# Altium footprint library pin_headers.PcbLib: 15 footprints
Each footprint in its own frame and in the unit in brackets; x right, y up, seen from the top. Pads: shape width x height; smd on the part's side, far side on the other; paste and mask are expansions set on the pad; w line width, h text height; cw(c..) or ccw(c..) is an arc to the next point about the centre after c.
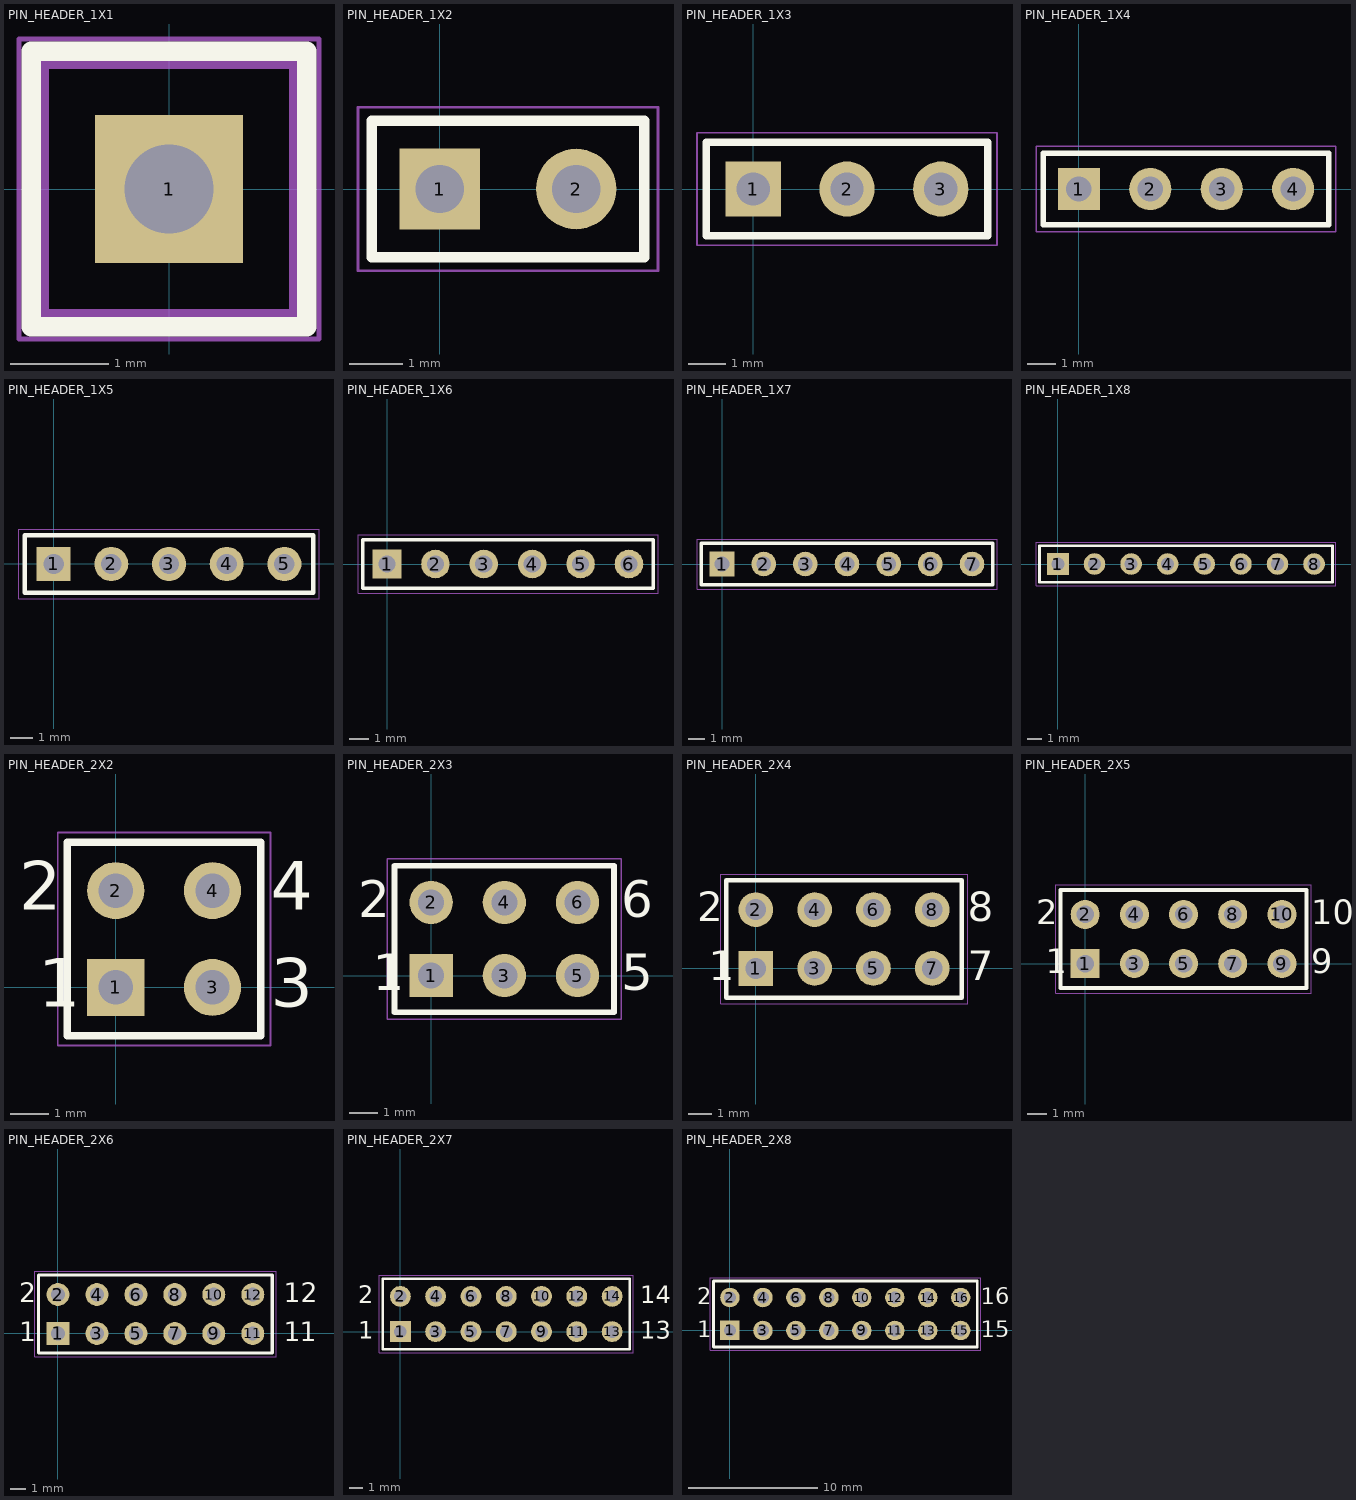
[diagram p0: the footprints below, top view; thin cyan lines are the x and y axes]

## PIN_HEADER_1X1 [mm] "pin header, 1-pin"
height 10
pads (1):
  rect 1.5x1.5 hole 0.9: 1(0,0)
Top Overlay:
  lines w0.2: -1.4,-1.4 1.4,-1.4 1.4,1.4 -1.4,1.4 -1.4,-1.4
Top Assembly:
  lines w0.1: -1.27,-1.27 -1.27,1.27 1.27,1.27 1.27,-1.27 -1.27,-1.27
Bottom Assembly:
  lines w0.1: -1.27,-1.27 -1.27,1.27 1.27,1.27 1.27,-1.27 -1.27,-1.27
Top Courtyard:
  lines w0.05: -1.524,-1.524 -1.524,1.524 1.524,1.524 1.524,-1.524 -1.524,-1.524
Bottom Courtyard:
  lines w0.05: -1.524,-1.524 1.524,-1.524 1.524,1.524 -1.524,1.524 -1.524,-1.524
3D body "User Library-Header_Male_1Pin.STEP": height 8.54, standoff -3, extent -1.27,-1.245 1.27,1.245

## PIN_HEADER_1X2 [mm] "pin header, 2-pin"
height 10
pads (2):
  rect 1.5x1.5 hole 0.9: 1(0,0)
  round 1.5 hole 0.9: 2(2.54,0)
Top Overlay:
  lines w0.2: -1.27,-1.27 3.81,-1.27 3.81,1.27 -1.27,1.27 -1.27,-1.27
Top Assembly:
  lines w0.1: -1.27,-1.27 1.27,-1.27 3.81,-1.27 3.81,1.27 1.27,1.27 -1.27,1.27 -1.27,-1.27
Bottom Assembly:
  lines w0.1: -1.27,-1.27 1.27,-1.27 3.81,-1.27 3.81,1.27 1.27,1.27 -1.27,1.27 -1.27,-1.27
Top Courtyard:
  lines w0.05: 1.016,-1.524 4.064,-1.524 4.064,1.524 1.016,1.524 ; 1.524,-1.524 -1.524,-1.524 -1.524,1.524 1.524,1.524
Bottom Courtyard:
  lines w0.05: 1.016,-1.524 4.064,-1.524 4.064,1.524 1.016,1.524 ; 1.524,-1.524 -1.524,-1.524 -1.524,1.524 1.524,1.524
3D body "User Library-Header_Male_1Pin.STEP": height 8.54, standoff -3, extent 1.27,-1.245 3.81,1.245
3D body "User Library-Header_Male_1Pin.STEP": height 8.54, standoff -3, extent -1.27,-1.245 1.27,1.245

## PIN_HEADER_1X3 [mm] "pin header, 3-pin"
height 10
pads (3):
  rect 1.5x1.5 hole 0.9: 1(0,0)
  round 1.5 hole 0.9: 2(2.54,0) 3(5.08,0)
Top Overlay:
  lines w0.2: -1.27,-1.27 6.35,-1.27 6.35,1.27 -1.27,1.27 -1.27,-1.27
Top Assembly:
  lines w0.1: -1.27,-1.27 1.27,-1.27 3.81,-1.27 6.35,-1.27 6.35,1.27 3.81,1.27 1.27,1.27 -1.27,1.27 -1.27,-1.27
Bottom Assembly:
  lines w0.1: -1.27,-1.27 1.27,-1.27 3.81,-1.27 6.35,-1.27 6.35,1.27 3.81,1.27 1.27,1.27 -1.27,1.27 -1.27,-1.27
Top Courtyard:
  lines w0.05: 1.016,-1.524 4.064,-1.524 ; 1.016,1.524 4.064,1.524 ; 1.524,-1.524 -1.524,-1.524 -1.524,1.524 1.524,1.524 ; 3.556,-1.524 6.604,-1.524 6.604,1.524 3.556,1.524
Bottom Courtyard:
  lines w0.05: 1.016,-1.524 4.064,-1.524 ; 1.016,1.524 4.064,1.524 ; 1.524,-1.524 -1.524,-1.524 -1.524,1.524 1.524,1.524 ; 3.556,-1.524 6.604,-1.524 6.604,1.524 3.556,1.524
3D body "User Library-Header_Male_1Pin.STEP": height 8.54, standoff -3, extent 3.81,-1.245 6.35,1.245
3D body "User Library-Header_Male_1Pin.STEP": height 8.54, standoff -3, extent 1.27,-1.245 3.81,1.245
3D body "User Library-Header_Male_1Pin.STEP": height 8.54, standoff -3, extent -1.27,-1.245 1.27,1.245

## PIN_HEADER_1X4 [mm] "pin header, 4-pin"
height 10
pads (4):
  rect 1.5x1.5 hole 0.9: 1(0,0)
  round 1.5 hole 0.9: 2(2.54,0) 3(5.08,0) 4(7.62,0)
Top Overlay:
  lines w0.2: -1.27,-1.27 8.89,-1.27 8.89,1.27 -1.27,1.27 -1.27,-1.27
Top Assembly:
  lines w0.1: -1.27,-1.27 1.27,-1.27 3.81,-1.27 6.35,-1.27 8.89,-1.27 8.89,1.27 6.35,1.27 3.81,1.27 1.27,1.27 -1.27,1.27 -1.27,-1.27
Bottom Assembly:
  lines w0.1: -1.27,-1.27 1.27,-1.27 3.81,-1.27 6.35,-1.27 8.89,-1.27 8.89,1.27 6.35,1.27 3.81,1.27 1.27,1.27 -1.27,1.27 -1.27,-1.27
Top Courtyard:
  lines w0.05: 1.016,-1.524 4.064,-1.524 ; 1.016,1.524 4.064,1.524 ; 1.524,-1.524 -1.524,-1.524 -1.524,1.524 1.524,1.524 ; 3.556,-1.524 6.604,-1.524 ; 3.556,1.524 6.604,1.524 ; 6.096,-1.524 9.144,-1.524 9.144,1.524 6.096,1.524
Bottom Courtyard:
  lines w0.05: 1.016,-1.524 4.064,-1.524 ; 1.016,1.524 4.064,1.524 ; 1.524,-1.524 -1.524,-1.524 -1.524,1.524 1.524,1.524 ; 3.556,-1.524 6.604,-1.524 ; 3.556,1.524 6.604,1.524 ; 6.096,-1.524 9.144,-1.524 9.144,1.524 6.096,1.524
3D body "User Library-Header_Male_1Pin.STEP": height 8.54, standoff -3, extent -1.27,-1.245 1.27,1.245
3D body "User Library-Header_Male_1Pin.STEP": height 8.54, standoff -3, extent 1.27,-1.245 3.81,1.245
3D body "User Library-Header_Male_1Pin.STEP": height 8.54, standoff -3, extent 3.81,-1.245 6.35,1.245
3D body "User Library-Header_Male_1Pin.STEP": height 8.54, standoff -3, extent 6.35,-1.245 8.89,1.245

## PIN_HEADER_1X5 [mm] "pin header, 5-pin"
height 10
pads (5):
  rect 1.5x1.5 hole 0.9: 1(0,0)
  round 1.5 hole 0.9: 2(2.54,0) 3(5.08,0) 4(7.62,0) 5(10.16,0)
Top Overlay:
  lines w0.2: -1.27,-1.27 11.43,-1.27 11.43,1.27 -1.27,1.27 -1.27,-1.27
Top Assembly:
  lines w0.1: -1.27,-1.27 1.27,-1.27 3.81,-1.27 6.35,-1.27 8.89,-1.27 11.43,-1.27 11.43,1.27 8.89,1.27 6.35,1.27 3.81,1.27 1.27,1.27 -1.27,1.27 -1.27,-1.27
Bottom Assembly:
  lines w0.1: -1.27,-1.27 1.27,-1.27 3.81,-1.27 6.35,-1.27 8.89,-1.27 11.43,-1.27 11.43,1.27 8.89,1.27 6.35,1.27 3.81,1.27 1.27,1.27 -1.27,1.27 -1.27,-1.27
Top Courtyard:
  lines w0.05: 1.016,-1.524 4.064,-1.524 ; 1.016,1.524 4.064,1.524 ; 1.524,-1.524 -1.524,-1.524 -1.524,1.524 1.524,1.524 ; 3.556,-1.524 6.604,-1.524 ; 3.556,1.524 6.604,1.524 ; 6.096,-1.524 9.144,-1.524 ; 6.096,1.524 9.144,1.524 ; 8.636,-1.524 11.684,-1.524 11.684,1.524 8.636,1.524
Bottom Courtyard:
  lines w0.05: 1.016,-1.524 4.064,-1.524 ; 1.016,1.524 4.064,1.524 ; 1.524,-1.524 -1.524,-1.524 -1.524,1.524 1.524,1.524 ; 3.556,-1.524 6.604,-1.524 ; 3.556,1.524 6.604,1.524 ; 6.096,-1.524 9.144,-1.524 ; 6.096,1.524 9.144,1.524 ; 8.636,-1.524 11.684,-1.524 11.684,1.524 8.636,1.524
3D body "User Library-Header_Male_1Pin.STEP": height 8.54, standoff -3, extent 8.89,-1.245 11.43,1.245
3D body "User Library-Header_Male_1Pin.STEP": height 8.54, standoff -3, extent 6.35,-1.245 8.89,1.245
3D body "User Library-Header_Male_1Pin.STEP": height 8.54, standoff -3, extent 3.81,-1.245 6.35,1.245
3D body "User Library-Header_Male_1Pin.STEP": height 8.54, standoff -3, extent 1.27,-1.245 3.81,1.245
3D body "User Library-Header_Male_1Pin.STEP": height 8.54, standoff -3, extent -1.27,-1.245 1.27,1.245

## PIN_HEADER_1X6 [mm] "pin header, 6-pin"
height 10
pads (6):
  rect 1.5x1.5 hole 0.9: 1(0,0)
  round 1.5 hole 0.9: 2(2.54,0) 3(5.08,0) 4(7.62,0) 5(10.16,0) 6(12.7,0)
Top Overlay:
  lines w0.2: -1.27,-1.27 -1.27,1.27 13.97,1.27 13.97,-1.27 -1.27,-1.27
Top Assembly:
  lines w0.1: -1.27,-1.27 -1.27,1.27 1.27,1.27 3.81,1.27 6.35,1.27 8.89,1.27 11.43,1.27 13.97,1.27 13.97,-1.27 11.43,-1.27 8.89,-1.27 6.35,-1.27 3.81,-1.27 1.27,-1.27 -1.27,-1.27
Bottom Assembly:
  lines w0.1: -1.27,-1.27 -1.27,1.27 1.27,1.27 3.81,1.27 6.35,1.27 8.89,1.27 11.43,1.27 13.97,1.27 13.97,-1.27 11.43,-1.27 8.89,-1.27 6.35,-1.27 3.81,-1.27 1.27,-1.27 -1.27,-1.27
Top Courtyard:
  lines w0.05: 1.016,-1.524 4.064,-1.524 ; 1.016,1.524 4.064,1.524 ; 1.524,-1.524 -1.524,-1.524 -1.524,1.524 1.524,1.524 ; 3.556,-1.524 6.604,-1.524 ; 3.556,1.524 6.604,1.524 ; 6.096,-1.524 9.144,-1.524 ; 6.096,1.524 9.144,1.524 ; 8.636,-1.524 11.684,-1.524 ; 8.636,1.524 11.684,1.524 ; 11.176,-1.524 14.224,-1.524 14.224,1.524 11.176,1.524
Bottom Courtyard:
  lines w0.05: 1.016,-1.524 4.064,-1.524 ; 1.016,1.524 4.064,1.524 ; 1.524,-1.524 -1.524,-1.524 -1.524,1.524 1.524,1.524 ; 3.556,-1.524 6.604,-1.524 ; 3.556,1.524 6.604,1.524 ; 6.096,-1.524 9.144,-1.524 ; 6.096,1.524 9.144,1.524 ; 8.636,-1.524 11.684,-1.524 ; 8.636,1.524 11.684,1.524 ; 11.176,-1.524 14.224,-1.524 14.224,1.524 11.176,1.524
3D body "User Library-Header_Male_1Pin.STEP": height 8.54, standoff -3, extent 11.43,-1.245 13.97,1.245
3D body "User Library-Header_Male_1Pin.STEP": height 8.54, standoff -3, extent 8.89,-1.245 11.43,1.245
3D body "User Library-Header_Male_1Pin.STEP": height 8.54, standoff -3, extent 6.35,-1.245 8.89,1.245
3D body "User Library-Header_Male_1Pin.STEP": height 8.54, standoff -3, extent 3.81,-1.245 6.35,1.245
3D body "User Library-Header_Male_1Pin.STEP": height 8.54, standoff -3, extent 1.27,-1.245 3.81,1.245
3D body "User Library-Header_Male_1Pin.STEP": height 8.54, standoff -3, extent -1.27,-1.245 1.27,1.245

## PIN_HEADER_1X7 [mm] "pin header, 7-pin"
height 10
pads (7):
  rect 1.5x1.5 hole 0.9: 1(0,0)
  round 1.5 hole 0.9: 2(2.54,0) 3(5.08,0) 4(7.62,0) 5(10.16,0) 6(12.7,0) 7(15.24,0)
Top Overlay:
  lines w0.2: -1.27,-1.27 16.51,-1.27 16.51,1.27 -1.27,1.27 -1.27,-1.27
Top Assembly:
  lines w0.1: -1.27,-1.27 1.27,-1.27 3.81,-1.27 6.35,-1.27 8.89,-1.27 11.43,-1.27 13.97,-1.27 16.51,-1.27 16.51,1.27 13.97,1.27 11.43,1.27 8.89,1.27 6.35,1.27 3.81,1.27 1.27,1.27 -1.27,1.27 -1.27,-1.27
Bottom Assembly:
  lines w0.1: -1.27,-1.27 1.27,-1.27 3.81,-1.27 6.35,-1.27 8.89,-1.27 11.43,-1.27 13.97,-1.27 16.51,-1.27 16.51,1.27 13.97,1.27 11.43,1.27 8.89,1.27 6.35,1.27 3.81,1.27 1.27,1.27 -1.27,1.27 -1.27,-1.27
Top Courtyard:
  lines w0.05: 1.016,-1.524 4.064,-1.524 ; 1.016,1.524 4.064,1.524 ; 1.524,-1.524 -1.524,-1.524 -1.524,1.524 1.524,1.524 ; 3.556,-1.524 6.604,-1.524 ; 3.556,1.524 6.604,1.524 ; 6.096,-1.524 9.144,-1.524 ; 6.096,1.524 9.144,1.524 ; 8.636,-1.524 11.684,-1.524 ; 8.636,1.524 11.684,1.524 ; 11.176,-1.524 14.224,-1.524 ; 11.176,1.524 14.224,1.524 ; 13.716,-1.524 16.764,-1.524 16.764,1.524 13.716,1.524
Bottom Courtyard:
  lines w0.05: 1.016,-1.524 4.064,-1.524 ; 1.016,1.524 4.064,1.524 ; 1.524,-1.524 -1.524,-1.524 -1.524,1.524 1.524,1.524 ; 3.556,-1.524 6.604,-1.524 ; 3.556,1.524 6.604,1.524 ; 6.096,-1.524 9.144,-1.524 ; 6.096,1.524 9.144,1.524 ; 8.636,-1.524 11.684,-1.524 ; 8.636,1.524 11.684,1.524 ; 11.176,-1.524 14.224,-1.524 ; 11.176,1.524 14.224,1.524 ; 13.716,-1.524 16.764,-1.524 16.764,1.524 13.716,1.524
3D body "User Library-Header_Male_1Pin.STEP": height 8.54, standoff -3, extent 13.97,-1.245 16.51,1.245
3D body "User Library-Header_Male_1Pin.STEP": height 8.54, standoff -3, extent 11.43,-1.245 13.97,1.245
3D body "User Library-Header_Male_1Pin.STEP": height 8.54, standoff -3, extent 8.89,-1.245 11.43,1.245
3D body "User Library-Header_Male_1Pin.STEP": height 8.54, standoff -3, extent 6.35,-1.245 8.89,1.245
3D body "User Library-Header_Male_1Pin.STEP": height 8.54, standoff -3, extent 3.81,-1.245 6.35,1.245
3D body "User Library-Header_Male_1Pin.STEP": height 8.54, standoff -3, extent 1.27,-1.245 3.81,1.245
3D body "User Library-Header_Male_1Pin.STEP": height 8.54, standoff -3, extent -1.27,-1.245 1.27,1.245

## PIN_HEADER_1X8 [mm] "pin header, 8-pin"
height 10
pads (8):
  rect 1.5x1.5 hole 0.9: 1(0,0)
  round 1.5 hole 0.9: 2(2.54,0) 3(5.08,0) 4(7.62,0) 5(10.16,0) 6(12.7,0) 7(15.24,0) 8(17.78,0)
Top Overlay:
  lines w0.2: -1.27,-1.27 19.05,-1.27 19.05,1.27 -1.27,1.27 -1.27,-1.27
Top Assembly:
  lines w0.1: -1.27,-1.27 1.27,-1.27 3.81,-1.27 6.35,-1.27 8.89,-1.27 11.43,-1.27 13.97,-1.27 16.51,-1.27 19.05,-1.27 19.05,1.27 16.51,1.27 13.97,1.27 11.43,1.27 8.89,1.27 6.35,1.27 3.81,1.27 1.27,1.27 -1.27,1.27 -1.27,-1.27
Bottom Assembly:
  lines w0.1: -1.27,-1.27 1.27,-1.27 3.81,-1.27 6.35,-1.27 8.89,-1.27 11.43,-1.27 13.97,-1.27 16.51,-1.27 19.05,-1.27 19.05,1.27 16.51,1.27 13.97,1.27 11.43,1.27 8.89,1.27 6.35,1.27 3.81,1.27 1.27,1.27 -1.27,1.27 -1.27,-1.27
Top Courtyard:
  lines w0.05: 1.016,-1.524 4.064,-1.524 ; 1.016,1.524 4.064,1.524 ; 1.524,-1.524 -1.524,-1.524 -1.524,1.524 1.524,1.524 ; 3.556,-1.524 6.604,-1.524 ; 3.556,1.524 6.604,1.524 ; 6.096,-1.524 9.144,-1.524 ; 6.096,1.524 9.144,1.524 ; 8.636,-1.524 11.684,-1.524 ; 8.636,1.524 11.684,1.524 ; 11.176,-1.524 14.224,-1.524 ; 11.176,1.524 14.224,1.524 ; 13.716,-1.524 16.764,-1.524 ; 13.716,1.524 16.764,1.524 ; 16.256,-1.524 19.304,-1.524 19.304,1.524 16.256,1.524
Bottom Courtyard:
  lines w0.05: 1.016,-1.524 4.064,-1.524 ; 1.016,1.524 4.064,1.524 ; 1.524,-1.524 -1.524,-1.524 -1.524,1.524 1.524,1.524 ; 3.556,-1.524 6.604,-1.524 ; 3.556,1.524 6.604,1.524 ; 6.096,-1.524 9.144,-1.524 ; 6.096,1.524 9.144,1.524 ; 8.636,-1.524 11.684,-1.524 ; 8.636,1.524 11.684,1.524 ; 11.176,-1.524 14.224,-1.524 ; 11.176,1.524 14.224,1.524 ; 13.716,-1.524 16.764,-1.524 ; 13.716,1.524 16.764,1.524 ; 16.256,-1.524 19.304,-1.524 19.304,1.524 16.256,1.524
3D body "User Library-Header_Male_1Pin.STEP": height 8.54, standoff -3, extent -1.27,-1.245 1.27,1.245
3D body "User Library-Header_Male_1Pin.STEP": height 8.54, standoff -3, extent 1.27,-1.245 3.81,1.245
3D body "User Library-Header_Male_1Pin.STEP": height 8.54, standoff -3, extent 3.81,-1.245 6.35,1.245
3D body "User Library-Header_Male_1Pin.STEP": height 8.54, standoff -3, extent 6.35,-1.245 8.89,1.245
3D body "User Library-Header_Male_1Pin.STEP": height 8.54, standoff -3, extent 8.89,-1.245 11.43,1.245
3D body "User Library-Header_Male_1Pin.STEP": height 8.54, standoff -3, extent 11.43,-1.245 13.97,1.245
3D body "User Library-Header_Male_1Pin.STEP": height 8.54, standoff -3, extent 13.97,-1.245 16.51,1.245
3D body "User Library-Header_Male_1Pin.STEP": height 8.54, standoff -3, extent 16.51,-1.245 19.05,1.245

## PIN_HEADER_2X2 [mm] "pin header, 2-pin, dual row"
height 10
pads (4):
  rect 1.5x1.5 hole 0.9: 1(0,0)
  round 1.5 hole 0.9: 2(0,2.54) 3(2.54,0) 4(2.54,2.54)
Top Overlay:
  lines w0.2: -1.27,-1.27 -1.27,3.81 3.81,3.81 3.81,-1.27 -1.27,-1.27
  text "1" at -2.032,-0.508 h1.27
  text "2" at -2.54,2.032 h1.27
  text "4" at 4.064,2.032 h1.27
  text "3" at 4.064,-0.508 h1.27
Top Assembly:
  lines w0.1: -1.27,-1.27 -1.27,1.27 -1.27,3.81 1.27,3.81 3.81,3.81 3.81,1.27 3.81,-1.27 1.27,-1.27 -1.27,-1.27
Bottom Assembly:
  lines w0.1: -1.27,-1.27 -1.27,1.27 -1.27,3.81 1.27,3.81 3.81,3.81 3.81,1.27 3.81,-1.27 1.27,-1.27 -1.27,-1.27
Top Courtyard:
  lines w0.05: -1.524,1.016 -1.524,4.064 1.524,4.064 ; -1.524,1.524 -1.524,-1.524 1.524,-1.524 ; 1.016,-1.524 4.064,-1.524 4.064,1.524 ; 1.016,4.064 4.064,4.064 4.064,1.016
Bottom Courtyard:
  lines w0.05: -1.524,1.016 -1.524,4.064 1.524,4.064 ; -1.524,1.524 -1.524,-1.524 1.524,-1.524 ; 1.016,-1.524 4.064,-1.524 4.064,1.524 ; 1.016,4.064 4.064,4.064 4.064,1.016
3D body "User Library-Header_Male_1Pin.STEP": height 8.54, standoff -3, extent -1.27,1.295 1.27,3.785
3D body "User Library-Header_Male_1Pin.STEP": height 8.54, standoff -3, extent 1.27,1.295 3.81,3.785
3D body "User Library-Header_Male_1Pin.STEP": height 8.54, standoff -3, extent 1.27,-1.245 3.81,1.245
3D body "User Library-Header_Male_1Pin.STEP": height 8.54, standoff -3, extent -1.27,-1.245 1.27,1.245

## PIN_HEADER_2X3 [mm] "pin header, 3-pin, dual row"
height 10
pads (6):
  rect 1.5x1.5 hole 0.9: 1(0,0)
  round 1.5 hole 0.9: 2(0,2.54) 3(2.54,0) 4(2.54,2.54) 5(5.08,0) 6(5.08,2.54)
Top Overlay:
  lines w0.2: 1.482,-1.27 6.35,-1.27 ; 6.35,-1.27 -1.27,-1.27 -1.27,3.81 6.35,3.81 6.35,-1.27
  text "1" at -2.032,-0.508 h1.27
  text "2" at -2.54,2.032 h1.27
  text "5" at 6.604,-0.508 h1.27
  text "6" at 6.604,2.032 h1.27
Top Assembly:
  lines w0.1: -1.27,-1.27 1.27,-1.27 3.81,-1.27 6.35,-1.27 6.35,1.27 6.35,3.81 3.81,3.81 1.27,3.81 -1.27,3.81 -1.27,1.27 -1.27,-1.27
Bottom Assembly:
  lines w0.1: -1.27,-1.27 1.27,-1.27 3.81,-1.27 6.35,-1.27 6.35,1.27 6.35,3.81 3.81,3.81 1.27,3.81 -1.27,3.81 -1.27,1.27 -1.27,-1.27
Top Courtyard:
  lines w0.05: -1.524,1.016 -1.524,4.064 1.524,4.064 ; -1.524,1.524 -1.524,-1.524 1.524,-1.524 ; 1.016,-1.524 4.064,-1.524 ; 1.016,4.064 4.064,4.064 ; 3.556,-1.524 6.604,-1.524 6.604,1.524 ; 3.556,4.064 6.604,4.064 6.604,1.016
Bottom Courtyard:
  lines w0.05: -1.524,1.016 -1.524,4.064 1.524,4.064 ; -1.524,1.524 -1.524,-1.524 1.524,-1.524 ; 1.016,-1.524 4.064,-1.524 ; 1.016,4.064 4.064,4.064 ; 3.556,-1.524 6.604,-1.524 6.604,1.524 ; 3.556,4.064 6.604,4.064 6.604,1.016
3D body "User Library-Header_Male_1Pin.STEP": height 8.54, standoff -3, extent -1.27,1.295 1.27,3.785
3D body "User Library-Header_Male_1Pin.STEP": height 8.54, standoff -3, extent 1.27,1.295 3.81,3.785
3D body "User Library-Header_Male_1Pin.STEP": height 8.54, standoff -3, extent 3.81,1.295 6.35,3.785
3D body "User Library-Header_Male_1Pin.STEP": height 8.54, standoff -3, extent 3.81,-1.245 6.35,1.245
3D body "User Library-Header_Male_1Pin.STEP": height 8.54, standoff -3, extent 1.27,-1.245 3.81,1.245
3D body "User Library-Header_Male_1Pin.STEP": height 8.54, standoff -3, extent -1.27,-1.245 1.27,1.245

## PIN_HEADER_2X4 [mm] "pin header, 4-pin, dual row"
height 10
pads (8):
  rect 1.5x1.5 hole 0.9: 1(0,0)
  round 1.5 hole 0.9: 2(0,2.54) 3(2.54,0) 4(2.54,2.54) 5(5.08,0) 6(5.08,2.54) 7(7.62,0) 8(7.62,2.54)
Top Overlay:
  lines w0.2: -1.27,-1.27 8.89,-1.27 8.89,3.81 -1.27,3.81 -1.27,-1.27
  text "2" at -2.54,2.032 h1.27
  text "1" at -2.032,-0.508 h1.27
  text "7" at 9.144,-0.508 h1.27
  text "8" at 9.144,2.032 h1.27
Top Assembly:
  lines w0.1: -1.27,-1.27 1.27,-1.27 3.81,-1.27 6.35,-1.27 8.89,-1.27 8.89,1.27 8.89,3.81 6.35,3.81 3.81,3.81 1.27,3.81 -1.27,3.81 -1.27,1.27 -1.27,-1.27
Bottom Assembly:
  lines w0.1: -1.27,-1.27 1.27,-1.27 3.81,-1.27 6.35,-1.27 8.89,-1.27 8.89,1.27 8.89,3.81 6.35,3.81 3.81,3.81 1.27,3.81 -1.27,3.81 -1.27,1.27 -1.27,-1.27
Top Courtyard:
  lines w0.05: -1.524,1.016 -1.524,4.064 1.524,4.064 ; -1.524,1.524 -1.524,-1.524 1.524,-1.524 ; 1.016,-1.524 4.064,-1.524 ; 1.016,4.064 4.064,4.064 ; 3.556,-1.524 6.604,-1.524 ; 3.556,4.064 6.604,4.064 ; 6.096,-1.524 9.144,-1.524 9.144,1.524 ; 6.096,4.064 9.144,4.064 9.144,1.016
Bottom Courtyard:
  lines w0.05: -1.524,1.016 -1.524,4.064 1.524,4.064 ; -1.524,1.524 -1.524,-1.524 1.524,-1.524 ; 1.016,-1.524 4.064,-1.524 ; 1.016,4.064 4.064,4.064 ; 3.556,-1.524 6.604,-1.524 ; 3.556,4.064 6.604,4.064 ; 6.096,-1.524 9.144,-1.524 9.144,1.524 ; 6.096,4.064 9.144,4.064 9.144,1.016
3D body "User Library-Header_Male_1Pin.STEP": height 8.54, standoff -3, extent -1.27,-1.245 1.27,1.245
3D body "User Library-Header_Male_1Pin.STEP": height 8.54, standoff -3, extent 1.27,-1.245 3.81,1.245
3D body "User Library-Header_Male_1Pin.STEP": height 8.54, standoff -3, extent 3.81,-1.245 6.35,1.245
3D body "User Library-Header_Male_1Pin.STEP": height 8.54, standoff -3, extent 6.35,-1.245 8.89,1.245
3D body "User Library-Header_Male_1Pin.STEP": height 8.54, standoff -3, extent 6.35,1.295 8.89,3.785
3D body "User Library-Header_Male_1Pin.STEP": height 8.54, standoff -3, extent 3.81,1.295 6.35,3.785
3D body "User Library-Header_Male_1Pin.STEP": height 8.54, standoff -3, extent 1.27,1.295 3.81,3.785
3D body "User Library-Header_Male_1Pin.STEP": height 8.54, standoff -3, extent -1.27,1.295 1.27,3.785

## PIN_HEADER_2X5 [mm] "pin header, 5-pin, dual row"
height 10
pads (10):
  rect 1.5x1.5 hole 0.9: 1(0,0)
  round 1.5 hole 0.9: 2(0,2.54) 3(2.54,0) 4(2.54,2.54) 5(5.08,0) 6(5.08,2.54) 7(7.62,0) 8(7.62,2.54) 9(10.16,0) 10(10.16,2.54)
Top Overlay:
  lines w0.2: -1.27,-1.27 -1.27,3.81 11.43,3.81 11.43,-1.27 -1.27,-1.27
  text "2" at -2.54,2.032 h1.27
  text "1" at -2.032,-0.508 h1.27
  text "9" at 11.684,-0.508 h1.27
  text "10" at 11.684,2.032 h1.27
Top Assembly:
  lines w0.1: -1.27,-1.27 1.27,-1.27 3.81,-1.27 6.35,-1.27 8.89,-1.27 11.43,-1.27 11.43,1.27 11.43,3.81 8.89,3.81 6.35,3.81 3.81,3.81 1.27,3.81 -1.27,3.81 -1.27,1.27 -1.27,-1.27
Bottom Assembly:
  lines w0.1: -1.27,-1.27 1.27,-1.27 3.81,-1.27 6.35,-1.27 8.89,-1.27 11.43,-1.27 11.43,1.27 11.43,3.81 8.89,3.81 6.35,3.81 3.81,3.81 1.27,3.81 -1.27,3.81 -1.27,1.27 -1.27,-1.27
Top Courtyard:
  lines w0.05: -1.524,1.016 -1.524,4.064 1.524,4.064 ; -1.524,1.524 -1.524,-1.524 1.524,-1.524 ; 1.016,-1.524 4.064,-1.524 ; 1.016,4.064 4.064,4.064 ; 3.556,-1.524 6.604,-1.524 ; 3.556,4.064 6.604,4.064 ; 6.096,-1.524 9.144,-1.524 ; 6.096,4.064 9.144,4.064 ; 8.636,-1.524 11.684,-1.524 11.684,1.524 ; 8.636,4.064 11.684,4.064 11.684,1.016
Bottom Courtyard:
  lines w0.05: -1.524,1.016 -1.524,4.064 1.524,4.064 ; -1.524,1.524 -1.524,-1.524 1.524,-1.524 ; 1.016,-1.524 4.064,-1.524 ; 1.016,4.064 4.064,4.064 ; 3.556,-1.524 6.604,-1.524 ; 3.556,4.064 6.604,4.064 ; 6.096,-1.524 9.144,-1.524 ; 6.096,4.064 9.144,4.064 ; 8.636,-1.524 11.684,-1.524 11.684,1.524 ; 8.636,4.064 11.684,4.064 11.684,1.016
3D body "User Library-Header_Male_1Pin.STEP": height 8.54, standoff -3, extent -1.27,1.295 1.27,3.785
3D body "User Library-Header_Male_1Pin.STEP": height 8.54, standoff -3, extent -1.27,-1.245 1.27,1.245
3D body "User Library-Header_Male_1Pin.STEP": height 8.54, standoff -3, extent 1.27,1.295 3.81,3.785
3D body "User Library-Header_Male_1Pin.STEP": height 8.54, standoff -3, extent 1.27,-1.245 3.81,1.245
3D body "User Library-Header_Male_1Pin.STEP": height 8.54, standoff -3, extent 3.81,1.295 6.35,3.785
3D body "User Library-Header_Male_1Pin.STEP": height 8.54, standoff -3, extent 3.81,-1.245 6.35,1.245
3D body "User Library-Header_Male_1Pin.STEP": height 8.54, standoff -3, extent 6.35,1.295 8.89,3.785
3D body "User Library-Header_Male_1Pin.STEP": height 8.54, standoff -3, extent 6.35,-1.245 8.89,1.245
3D body "User Library-Header_Male_1Pin.STEP": height 8.54, standoff -3, extent 8.89,1.295 11.43,3.785
3D body "User Library-Header_Male_1Pin.STEP": height 8.54, standoff -3, extent 8.89,-1.245 11.43,1.245

## PIN_HEADER_2X6 [mm] "pin header, 6-pin, dual row"
height 10
pads (12):
  rect 1.5x1.5 hole 0.9: 1(0,0)
  round 1.5 hole 0.9: 2(0,2.54) 3(2.54,0) 4(2.54,2.54) 5(5.08,0) 6(5.08,2.54) 7(7.62,0) 8(7.62,2.54) 9(10.16,0) 10(10.16,2.54) 11(12.7,0) 12(12.7,2.54)
Top Overlay:
  lines w0.2: -1.27,-1.27 13.97,-1.27 13.97,3.81 -1.27,3.81 -1.27,-1.27
  text "12" at 14.732,2.032 h1.27
  text "1" at 15.748,-0.508 h1.27
  text "1" at 14.732,-0.508 h1.27
  text "1" at -2.54,-0.508 h1.27
  text "2" at -2.54,2.032 h1.27
Top Assembly:
  lines w0.1: -1.27,-1.27 -1.27,1.27 -1.27,3.81 1.27,3.81 3.81,3.81 6.35,3.81 8.89,3.81 11.43,3.81 13.97,3.81 13.97,1.27 13.97,-1.27 11.43,-1.27 8.89,-1.27 6.35,-1.27 3.81,-1.27 1.27,-1.27 -1.27,-1.27
Bottom Assembly:
  lines w0.1: -1.27,-1.27 -1.27,1.27 -1.27,3.81 1.27,3.81 3.81,3.81 6.35,3.81 8.89,3.81 11.43,3.81 13.97,3.81 13.97,1.27 13.97,-1.27 11.43,-1.27 8.89,-1.27 6.35,-1.27 3.81,-1.27 1.27,-1.27 -1.27,-1.27
Top Courtyard:
  lines w0.05: -1.524,1.016 -1.524,4.064 1.524,4.064 ; -1.524,1.524 -1.524,-1.524 1.524,-1.524 ; 1.016,-1.524 4.064,-1.524 ; 1.016,4.064 4.064,4.064 ; 3.556,-1.524 6.604,-1.524 ; 3.556,4.064 6.604,4.064 ; 6.096,-1.524 9.144,-1.524 ; 6.096,4.064 9.144,4.064 ; 8.636,-1.524 11.684,-1.524 ; 8.636,4.064 11.684,4.064 ; 11.176,-1.524 14.224,-1.524 14.224,1.524 ; 11.176,4.064 14.224,4.064 14.224,1.016
Bottom Courtyard:
  lines w0.05: -1.524,1.016 -1.524,4.064 1.524,4.064 ; -1.524,1.524 -1.524,-1.524 1.524,-1.524 ; 1.016,-1.524 4.064,-1.524 ; 1.016,4.064 4.064,4.064 ; 3.556,-1.524 6.604,-1.524 ; 3.556,4.064 6.604,4.064 ; 6.096,-1.524 9.144,-1.524 ; 6.096,4.064 9.144,4.064 ; 8.636,-1.524 11.684,-1.524 ; 8.636,4.064 11.684,4.064 ; 11.176,-1.524 14.224,-1.524 14.224,1.524 ; 11.176,4.064 14.224,4.064 14.224,1.016
3D body "User Library-Header_Male_1Pin.STEP": height 8.54, standoff -3, extent -1.27,1.295 1.27,3.785
3D body "User Library-Header_Male_1Pin.STEP": height 8.54, standoff -3, extent 1.27,1.295 3.81,3.785
3D body "User Library-Header_Male_1Pin.STEP": height 8.54, standoff -3, extent 3.81,1.295 6.35,3.785
3D body "User Library-Header_Male_1Pin.STEP": height 8.54, standoff -3, extent 6.35,1.295 8.89,3.785
3D body "User Library-Header_Male_1Pin.STEP": height 8.54, standoff -3, extent 8.89,1.295 11.43,3.785
3D body "User Library-Header_Male_1Pin.STEP": height 8.54, standoff -3, extent 11.43,1.295 13.97,3.785
3D body "User Library-Header_Male_1Pin.STEP": height 8.54, standoff -3, extent 11.43,-1.245 13.97,1.245
3D body "User Library-Header_Male_1Pin.STEP": height 8.54, standoff -3, extent 8.89,-1.245 11.43,1.245
3D body "User Library-Header_Male_1Pin.STEP": height 8.54, standoff -3, extent 6.35,-1.245 8.89,1.245
3D body "User Library-Header_Male_1Pin.STEP": height 8.54, standoff -3, extent 3.81,-1.245 6.35,1.245
3D body "User Library-Header_Male_1Pin.STEP": height 8.54, standoff -3, extent 1.27,-1.245 3.81,1.245
3D body "User Library-Header_Male_1Pin.STEP": height 8.54, standoff -3, extent -1.27,-1.245 1.27,1.245

## PIN_HEADER_2X7 [mm] "pin header, 7-pin, dual row"
height 10
pads (14):
  rect 1.5x1.5 hole 0.9: 1(0,0)
  round 1.5 hole 0.9: 2(0,2.54) 3(2.54,0) 4(2.54,2.54) 5(5.08,0) 6(5.08,2.54) 7(7.62,0) 8(7.62,2.54) 9(10.16,0) 10(10.16,2.54) 11(12.7,0) 12(12.7,2.54) 13(15.24,0) 14(15.24,2.54)
Top Overlay:
  lines w0.2: -1.27,-1.27 -1.27,3.81 16.51,3.81 16.51,-1.27 -1.27,-1.27
  text "2" at -3.048,2.032 h1.27
  text "1" at -3.048,-0.508 h1.27
  text "14" at 17.272,2.032 h1.27
  text "13" at 17.272,-0.508 h1.27
Top Assembly:
  lines w0.1: -1.27,-1.27 1.27,-1.27 3.81,-1.27 6.35,-1.27 8.89,-1.27 11.43,-1.27 13.97,-1.27 16.51,-1.27 16.51,1.27 16.51,3.81 13.97,3.81 11.43,3.81 8.89,3.81 6.35,3.81 3.81,3.81 1.27,3.81 -1.27,3.81 -1.27,1.27 -1.27,-1.27
Bottom Assembly:
  lines w0.1: -1.27,-1.27 1.27,-1.27 3.81,-1.27 6.35,-1.27 8.89,-1.27 11.43,-1.27 13.97,-1.27 16.51,-1.27 16.51,1.27 16.51,3.81 13.97,3.81 11.43,3.81 8.89,3.81 6.35,3.81 3.81,3.81 1.27,3.81 -1.27,3.81 -1.27,1.27 -1.27,-1.27
Top Courtyard:
  lines w0.05: -1.524,1.016 -1.524,4.064 1.524,4.064 ; -1.524,1.524 -1.524,-1.524 1.524,-1.524 ; 1.016,-1.524 4.064,-1.524 ; 1.016,4.064 4.064,4.064 ; 3.556,-1.524 6.604,-1.524 ; 3.556,4.064 6.604,4.064 ; 6.096,-1.524 9.144,-1.524 ; 6.096,4.064 9.144,4.064 ; 8.636,-1.524 11.684,-1.524 ; 8.636,4.064 11.684,4.064 ; 11.176,-1.524 14.224,-1.524 ; 11.176,4.064 14.224,4.064 ; 13.716,-1.524 16.764,-1.524 16.764,1.524 ; 13.716,4.064 16.764,4.064 16.764,1.016
Bottom Courtyard:
  lines w0.05: -1.524,1.016 -1.524,4.064 1.524,4.064 ; -1.524,1.524 -1.524,-1.524 1.524,-1.524 ; 1.016,-1.524 4.064,-1.524 ; 1.016,4.064 4.064,4.064 ; 3.556,-1.524 6.604,-1.524 ; 3.556,4.064 6.604,4.064 ; 6.096,-1.524 9.144,-1.524 ; 6.096,4.064 9.144,4.064 ; 8.636,-1.524 11.684,-1.524 ; 8.636,4.064 11.684,4.064 ; 11.176,-1.524 14.224,-1.524 ; 11.176,4.064 14.224,4.064 ; 13.716,-1.524 16.764,-1.524 16.764,1.524 ; 13.716,4.064 16.764,4.064 16.764,1.016
3D body "User Library-Header_Male_1Pin.STEP": height 8.54, standoff -3, extent -1.27,1.295 1.27,3.785
3D body "User Library-Header_Male_1Pin.STEP": height 8.54, standoff -3, extent -1.27,-1.245 1.27,1.245
3D body "User Library-Header_Male_1Pin.STEP": height 8.54, standoff -3, extent 1.27,1.295 3.81,3.785
3D body "User Library-Header_Male_1Pin.STEP": height 8.54, standoff -3, extent 1.27,-1.245 3.81,1.245
3D body "User Library-Header_Male_1Pin.STEP": height 8.54, standoff -3, extent 3.81,1.295 6.35,3.785
3D body "User Library-Header_Male_1Pin.STEP": height 8.54, standoff -3, extent 3.81,-1.245 6.35,1.245
3D body "User Library-Header_Male_1Pin.STEP": height 8.54, standoff -3, extent 6.35,1.295 8.89,3.785
3D body "User Library-Header_Male_1Pin.STEP": height 8.54, standoff -3, extent 6.35,-1.245 8.89,1.245
3D body "User Library-Header_Male_1Pin.STEP": height 8.54, standoff -3, extent 8.89,1.295 11.43,3.785
3D body "User Library-Header_Male_1Pin.STEP": height 8.54, standoff -3, extent 8.89,-1.245 11.43,1.245
3D body "User Library-Header_Male_1Pin.STEP": height 8.54, standoff -3, extent 11.43,1.295 13.97,3.785
3D body "User Library-Header_Male_1Pin.STEP": height 8.54, standoff -3, extent 11.43,-1.245 13.97,1.245
3D body "User Library-Header_Male_1Pin.STEP": height 8.54, standoff -3, extent 13.97,1.295 16.51,3.785
3D body "User Library-Header_Male_1Pin.STEP": height 8.54, standoff -3, extent 13.97,-1.245 16.51,1.245

## PIN_HEADER_2X8 [mm] "pin header, 8-pin, dual row"
height 10
pads (16):
  rect 1.5x1.5 hole 0.9: 1(0,0)
  round 1.5 hole 0.9: 2(0,2.54) 3(2.54,0) 4(2.54,2.54) 5(5.08,0) 6(5.08,2.54) 7(7.62,0) 8(7.62,2.54) 9(10.16,0) 10(10.16,2.54) 11(12.7,0) 12(12.7,2.54) 13(15.24,0) 14(15.24,2.54) 15(17.78,0) 16(17.78,2.54)
Top Overlay:
  lines w0.2: -1.27,-1.27 19.05,-1.27 19.05,3.81 -1.27,3.81 -1.27,-1.27
  text "16" at 19.304,2.032 h1.27
  text "15" at 19.304,-0.508 h1.27
  text "1" at -2.54,-0.508 h1.27
  text "2" at -2.54,2.032 h1.27
Top Assembly:
  lines w0.1: -1.27,-1.27 1.27,-1.27 3.81,-1.27 6.35,-1.27 8.89,-1.27 11.43,-1.27 13.97,-1.27 16.51,-1.27 19.05,-1.27 19.05,1.27 19.05,3.81 16.51,3.81 13.97,3.81 11.43,3.81 8.89,3.81 6.35,3.81 3.81,3.81 1.27,3.81 -1.27,3.81 -1.27,1.27 -1.27,-1.27
Bottom Assembly:
  lines w0.1: -1.27,-1.27 1.27,-1.27 3.81,-1.27 6.35,-1.27 8.89,-1.27 11.43,-1.27 13.97,-1.27 16.51,-1.27 19.05,-1.27 19.05,1.27 19.05,3.81 16.51,3.81 13.97,3.81 11.43,3.81 8.89,3.81 6.35,3.81 3.81,3.81 1.27,3.81 -1.27,3.81 -1.27,1.27 -1.27,-1.27
Top Courtyard:
  lines w0.05: -1.524,1.016 -1.524,4.064 1.524,4.064 ; -1.524,1.524 -1.524,-1.524 1.524,-1.524 ; 1.016,-1.524 4.064,-1.524 ; 1.016,4.064 4.064,4.064 ; 3.556,-1.524 6.604,-1.524 ; 3.556,4.064 6.604,4.064 ; 6.096,-1.524 9.144,-1.524 ; 6.096,4.064 9.144,4.064 ; 8.636,-1.524 11.684,-1.524 ; 8.636,4.064 11.684,4.064 ; 11.176,-1.524 14.224,-1.524 ; 11.176,4.064 14.224,4.064 ; 13.716,-1.524 16.764,-1.524 ; 13.716,4.064 16.764,4.064 ; 16.256,-1.524 19.304,-1.524 19.304,1.524 ; 16.256,4.064 19.304,4.064 19.304,1.016
Bottom Courtyard:
  lines w0.05: -1.524,1.016 -1.524,4.064 1.524,4.064 ; -1.524,1.524 -1.524,-1.524 1.524,-1.524 ; 1.016,-1.524 4.064,-1.524 ; 1.016,4.064 4.064,4.064 ; 3.556,-1.524 6.604,-1.524 ; 3.556,4.064 6.604,4.064 ; 6.096,-1.524 9.144,-1.524 ; 6.096,4.064 9.144,4.064 ; 8.636,-1.524 11.684,-1.524 ; 8.636,4.064 11.684,4.064 ; 11.176,-1.524 14.224,-1.524 ; 11.176,4.064 14.224,4.064 ; 13.716,-1.524 16.764,-1.524 ; 13.716,4.064 16.764,4.064 ; 16.256,-1.524 19.304,-1.524 19.304,1.524 ; 16.256,4.064 19.304,4.064 19.304,1.016
3D body "User Library-Header_Male_1Pin.STEP": height 8.54, standoff -3, extent 16.51,-1.245 19.05,1.245
3D body "User Library-Header_Male_1Pin.STEP": height 8.54, standoff -3, extent 16.51,1.295 19.05,3.785
3D body "User Library-Header_Male_1Pin.STEP": height 8.54, standoff -3, extent 13.97,-1.245 16.51,1.245
3D body "User Library-Header_Male_1Pin.STEP": height 8.54, standoff -3, extent 13.97,1.295 16.51,3.785
3D body "User Library-Header_Male_1Pin.STEP": height 8.54, standoff -3, extent 11.43,-1.245 13.97,1.245
3D body "User Library-Header_Male_1Pin.STEP": height 8.54, standoff -3, extent 11.43,1.295 13.97,3.785
3D body "User Library-Header_Male_1Pin.STEP": height 8.54, standoff -3, extent 8.89,-1.245 11.43,1.245
3D body "User Library-Header_Male_1Pin.STEP": height 8.54, standoff -3, extent 8.89,1.295 11.43,3.785
3D body "User Library-Header_Male_1Pin.STEP": height 8.54, standoff -3, extent 6.35,-1.245 8.89,1.245
3D body "User Library-Header_Male_1Pin.STEP": height 8.54, standoff -3, extent 6.35,1.295 8.89,3.785
3D body "User Library-Header_Male_1Pin.STEP": height 8.54, standoff -3, extent 3.81,-1.245 6.35,1.245
3D body "User Library-Header_Male_1Pin.STEP": height 8.54, standoff -3, extent 3.81,1.295 6.35,3.785
3D body "User Library-Header_Male_1Pin.STEP": height 8.54, standoff -3, extent 1.27,-1.245 3.81,1.245
3D body "User Library-Header_Male_1Pin.STEP": height 8.54, standoff -3, extent 1.27,1.295 3.81,3.785
3D body "User Library-Header_Male_1Pin.STEP": height 8.54, standoff -3, extent -1.27,-1.245 1.27,1.245
3D body "User Library-Header_Male_1Pin.STEP": height 8.54, standoff -3, extent -1.27,1.295 1.27,3.785